# EAGLE library part KISS-ESC-24ARE (library custom-devices)
KISS ESC 2-5S 24A Race Edition - 32-bit Brushless Motor Controller
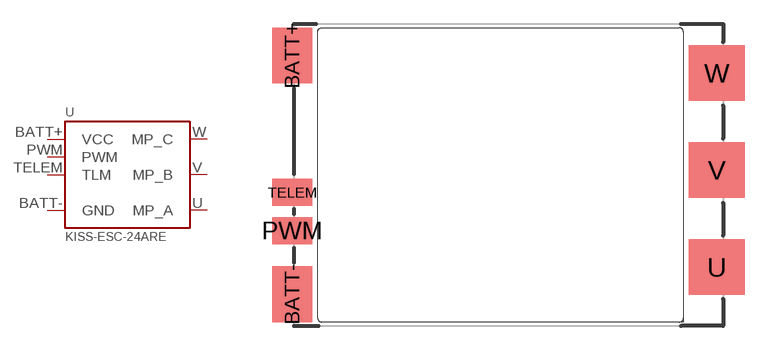
[diagram p28: symbol with the pads of KISS-ESC-24ARE; footprint KISS-ESC-24ARE]

Designator prefix U

## KISS-ESC-24ARE  [KISS-ESC-24ARE]
BATT+  VCC  pwr
BATT-  GND  pwr
PWM  PWM
TELEM  TLM
U  MP_A
V  MP_B
W  MP_C

## Footprint KISS-ESC-24ARE (pad centres in mm)
ESC KISSv2
smd 2.5 x 3.5: BATT+ -13.1,7.5; BATT- -13.1,-7.5
smd 2.5 x 1.7: PWM -13.1,-3.5; TELEM -13.1,-1.1
smd 3.5 x 3.5: U 13.6,-5.8; V 13.6,0.3; W 13.6,6.4